# Altium schematic symbol library Connectors.SchLib: 308 symbols (part 4 of 4)
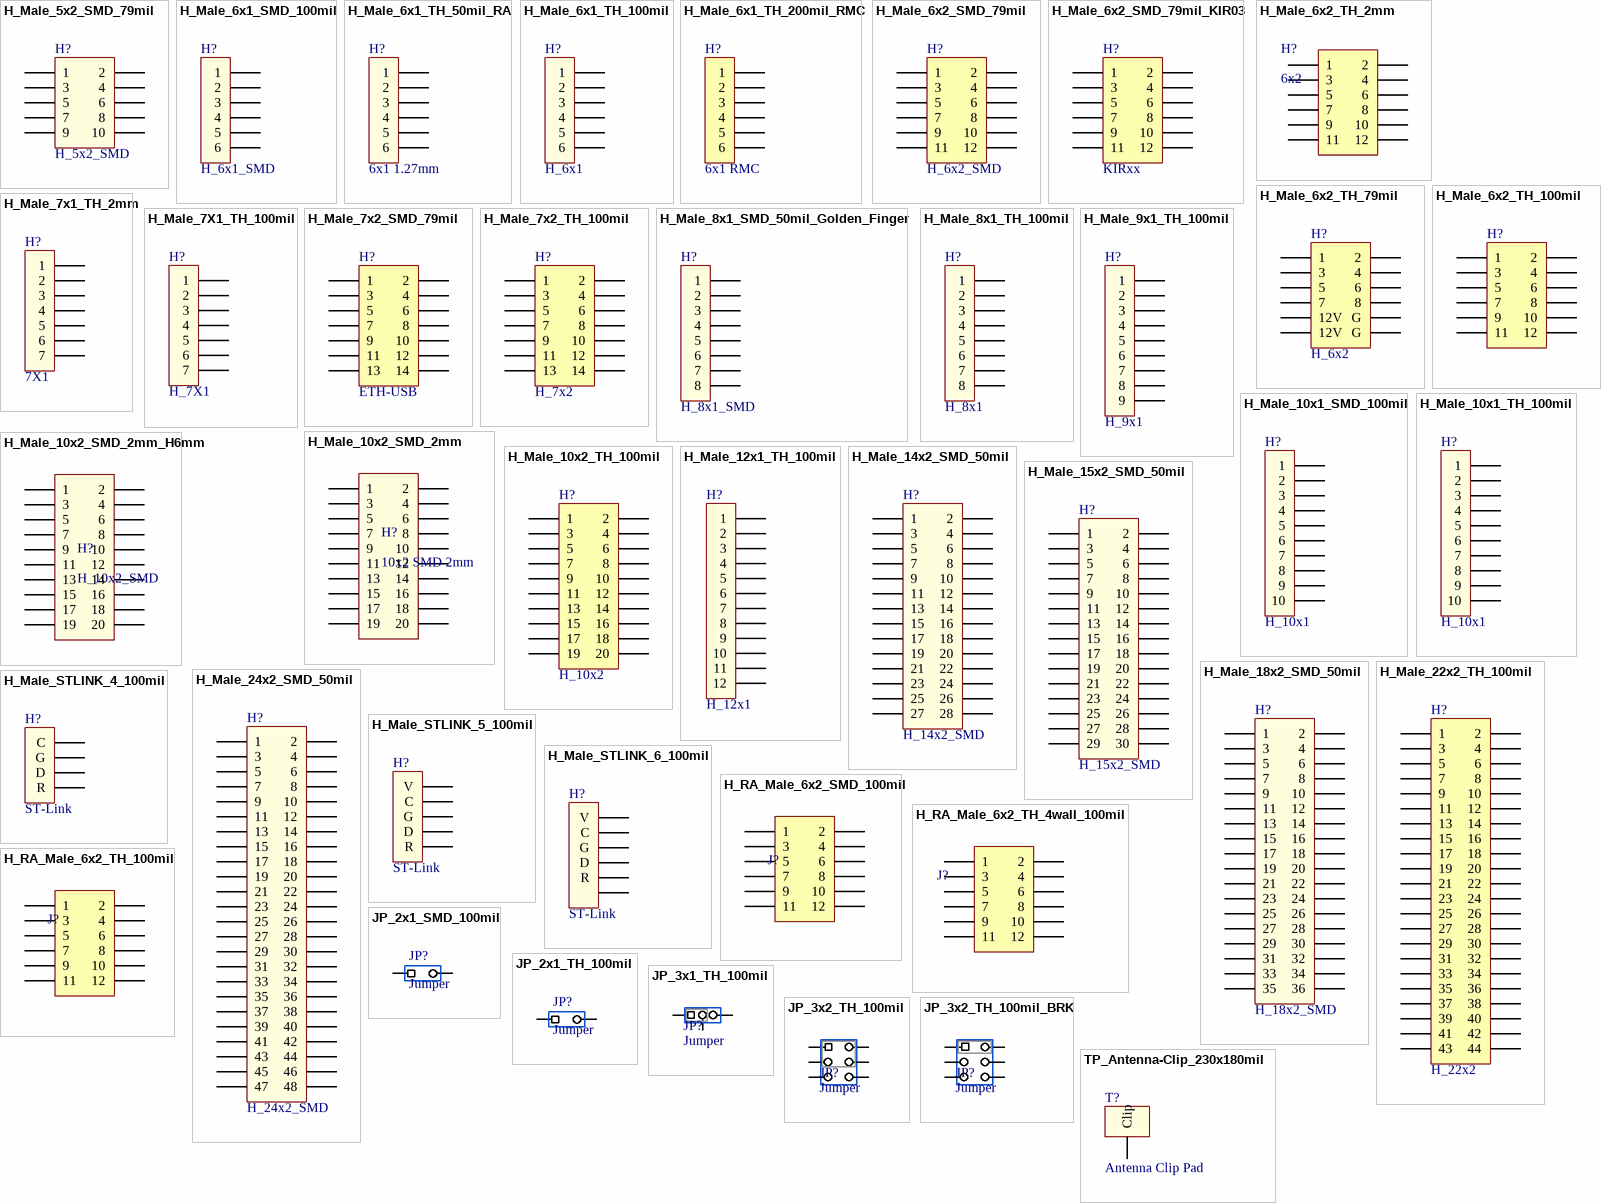
[diagram p12: symbols H_Male_5x2_SMD_79mil to TP_Antenna-Clip_230x180mil]

## H_Male_10x2_SMD_2mm
designator H?, comment 10x2 SMD 2mm
CONN HEADER SMD 20POS 2MM; Manufacturer: Molex; Manufacturer Part Number: 0877592074; Supplier 1: Digi-Key; Supplier Part Number 1: WM26782CT-ND; Last modified by: J-A.Sepulveda; Last modified date: 20230119; ComponentLink1Description: Digi-Key; ComponentLink1URL: https://www.digikey.com/en/products/detail/molex/0877592074/3313034?s=N4IgTCBcDaIBwHYEFYCcBaMAGBAWEAugL5A
footprint H_10x2_SMD_2mm (/20230119/J-A.Sepulveda)
pins: 1, 2, 3, 4, 5, 6, 7, 8, 9, 10, 11, 12, 13, 14, 15, 16, 17, 18, 19, 20

## H_Male_10x2_SMD_2mm_H6mm
designator H?, comment H_10x2_SMD
CONN HEADER SMD 20POS 2MM; Manufacturer: RealRun Electronic; Manufacturer Part Number: PH2.0*1.5-2*10T B3.9 W6.5 E2.1 6T 1U (WITH POST); Supplier 1: Poshton; Supplier Part Number 1: PH2.0*1.5-2*10T B3.9 W6.5 E2.1 6T 1U (WITH POST); Last modified by: J-A.Sepulveda; Last modified date: 20230628; ComponentLink1Description: Datasheet; ComponentLink1URL: https://drive.google.com/file/d/1JPzu1F8oawhlm6ms1WCOraaywETR9AVm/view?usp=drive_link
footprint H_Male_10x2_SMD_2mm_H6mm (/20230621/J-A.Sepulveda)
pins: 1, 2, 3, 4, 5, 6, 7, 8, 9, 10, 11, 12, 13, 14, 15, 16, 17, 18, 19, 20

## H_Male_10x2_TH_100mil
designator H?, comment H_10x2  (no BOM)
CONN HEADER VERT 20POS 2.54MM; Manufacturer: Sullins Connector Solutions; Manufacturer Part Number: PREC010DAAN-RC; Supplier 1: Digi-Key; Supplier Part Number 1: S2012EC-10-ND; Last modified by: J-P.Vargas.A; Last modified date: 20210722; ComponentLink1Description: Digi-Key; ComponentLink1URL: https://www.digikey.com/product-detail/en/sullins-connector-solutions/PREC010DAAN-RC/S2012EC-10-ND/2774884
footprint H_10x2_TH_100mil (/ 20190625 / J-P.Vargas.A)
pins: 1, 2, 3, 4, 5, 6, 7, 8, 9, 10, 11, 12, 13, 14, 15, 16, 17, 18, 19, 20

## H_Male_12x1_TH_100mil
designator H?, comment H_12x1
CONN HEADER VERT 12POS 2.54MM; Manufacturer: Adam Tech; Manufacturer Part Number: PH1-12-UA; Supplier 1: Digi-Key; Supplier Part Number 1: 2057-PH1-12-UA-ND; Last modified by: V-A.Patino; Last modified date: 20210906; ComponentLink1Description: Digi-Key; ComponentLink1URL: https://www.digikey.com/en/products/detail/adam-tech/PH1-12-UA/9830395
footprint H_12x1_TH_100mil (/ 20210825/ V-A.Patino)
pins: 1, 2, 3, 4, 5, 6, 7, 8, 9, 10, 11, 12

## H_Male_14x2_SMD_50mil
designator H?, comment H_14x2_SMD
CONN HEADER SMD 28POS 1.27MM; Manufacturer: REALRUN; Manufacturer Part Number: PH1.27×1.0-2X14T; Last modified by: C-D Viveros; Last modified date: 20220119; Supplier 1: Poshton; Supplier Part Number 1: PH1.27×1.0-2X14T
footprint H_14x2_SMD_50mil (/ 20220119/ C-D Viveros)
pins: 1, 2, 3, 4, 5, 6, 7, 8, 9, 10, 11, 12, 13, 14, 15, 16, 17, 18, 19, 20, 21, 22, 23, 24, 25, 26, 27, 28

## H_Male_15x2_SMD_50mil
designator H?, comment H_15x2_SMD
CONN HEADER SMD 30POS 1.27MM; Manufacturer: REALRUN; Manufacturer Part Number: PH1.27×1.0-2X15T; Last modified by: N-A.Potosi; Last modified date: 20220908; Supplier 1: Poshton; Supplier Part Number 1: PH1.27×1.0-2X15T
footprint H_15x2_SMD_50mil (/ 20220908/ N-A.Potosi)
pins: 1, 2, 3, 4, 5, 6, 7, 8, 9, 10, 11, 12, 13, 14, 15, 16, 17, 18, 19, 20, 21, 22, 23, 24, 25, 26, 27, 28, 29, 30

## H_Male_18x2_SMD_50mil
designator H?, comment H_18x2_SMD
CONN HEADER SMD 36POS 1.27MM; Manufacturer: REALRUN; Manufacturer Part Number: PH1.27×1.0-2X18T; Last modified by: C-D Viveros; Last modified date: 20220119; Supplier 1: Poshton; Supplier Part Number 1: PH1.27×1.0-2X18T
footprint H_18x2_SMD_50mil (/ 20220119 / C-D Viveros)
pins: 1, 2, 3, 4, 5, 6, 7, 8, 9, 10, 11, 12, 13, 14, 15, 16, 17, 18, 19, 20, 21, 22, 23, 24, 25, 26, 27, 28, 29, 30, 31, 32, 33, 34, 35, 36

## H_Male_22x2_TH_100mil
designator H?, comment H_22x2  (no BOM)
CONN HEADER VERT 44POS 2.54MM; Last modified by: N-A.Potosi; Last modified date: 20200309
footprint H_22x2_TH_100mil (Header 100 Mil / 20200309/N-A.Potosi)
pins: 1, 2, 3, 4, 5, 6, 7, 8, 9, 10, 11, 12, 13, 14, 15, 16, 17, 18, 19, 20, 21, 22, 23, 24, 25, 26, 27, 28, 29, 30, 31, 32, 33, 34, 35, 36, 37, 38, 39, 40, 41, 42, 43, 44

## H_Male_24x2_SMD_50mil
designator H?, comment H_24x2_SMD
CONN HEADER SMD 48POS 1.27MM; Manufacturer: REALRUN; Manufacturer Part Number: PH1.27×1.0-2X24T; Last modified by: C-D Viveros; Last modified date: 20220119; Supplier 1: Poshton; Supplier Part Number 1: PH1.27×1.0-2X24T
footprint H_24x2_SMD_50mil (/ 20220119 / C-D Viveros)
pins: 1, 2, 3, 4, 5, 6, 7, 8, 9, 10, 11, 12, 13, 14, 15, 16, 17, 18, 19, 20, 21, 22, 23, 24, 25, 26, 27, 28, 29, 30, 31, 32, 33, 34, 35, 36, 37, 38, 39, 40, 41, 42, 43, 44, 45, 46, 47, 48

## H_Male_STLINK_4_100mil
designator H?, comment ST-Link  (no BOM)
STLINK Debugging; Last modified by: C-A.Serna.A; Last modified date: 20190225
footprint H_4x1_TH_100mil (/ 20190222 / C-A.Serna.A)
footprint H_4x1_SMD_100mil (/ 20190221 / C-A.Serna.A)
pins: 1 C, 2 G, 3 D, 4 R

## H_Male_STLINK_5_100mil
designator H?, comment ST-Link  (no BOM)
STLINK Debugging; Last modified by: C-A.Serna.A; Last modified date: 20190225
footprint H_5x1_TH_100mil (/ 20190222 / C-A.Serna.A)
pins: 1 V, 2 C, 3 G, 4 D, 5 R

## H_Male_STLINK_6_100mil
designator H?, comment ST-Link  (no BOM)
STLINK Debugging; Last modified by: C-A.Serna.A; Last modified date: 20190225
footprint H_6x1_TH_100mil (/ 20190222 / C-A.Serna.A)
pins: 1 V, 2 C, 3 G, 4 D, 5 R, 6

## H_RA_Male_6x2_SMD_100mil
designator J?, comment 6x2  (value not drawn)
CONN HEADER SMD R/A 12POS 2.54MM; Manufacturer: Samtec Inc.; Manufacturer Part Number: TSM-106-01-T-DH; Supplier 1: Digi-Key; Supplier Part Number 1: SAM8986-ND; Last modified by: J.Jaramillo; Last modified date: 20221117; ComponentLink1Description: Digi-Key; ComponentLink1URL: https://www.digikey.com/en/products/detail/samtec-inc/TSM-106-01-T-DH/2685652
footprint H_MALE_6x2_SMD (/20221116/J.Jaramillo)
pins: 1, 2, 3, 4, 5, 6, 7, 8, 9, 10, 11, 12

## H_RA_Male_6x2_TH_4wall_100mil
designator J?, comment 6X2  (value not drawn)
CONN HEADER R/A 12POS 2.54MM 4wall; Manufacturer: Adam Tech; Manufacturer Part Number: BHR-12-HUA; Supplier 1: Digi-Key; Supplier Part Number 1: 2057-BHR-12-HUA-ND; Last modified by: J.Jaramillo; Last modified date: 20221122
footprint H_6x2_TH_100mil _Shrouded (/ 20221122 / J.Jaramillo)
pins: 1, 2, 3, 4, 5, 6, 7, 8, 9, 10, 11, 12

## H_RA_Male_6x2_TH_100mil
designator J?, comment CONN HEADER R/A 12POS 2.54MM  (value not drawn)
Manufacturer: Amphenol ICC (FCI); Manufacturer Part Number: 10129382-912002BLF; Supplier 1: Digi-Key; Supplier Part Number 1: 10129382-912002BLF-ND; Last modified by: J.Jaramillo; Last modified date: 20221116; ComponentLink1Description: Digi-Key; ComponentLink1URL: https://www.digikey.com/en/products/detail/amphenol-cs-fci/10129382-912002BLF/7916140
footprint H_6x2_TH_100mil -RA (/ 20221116 / J.Jaramillo)
pins: 1, 2, 3, 4, 5, 6, 7, 8, 9, 10, 11, 12

## JP_2x1_SMD_100mil
designator JP?, comment Jumper
Jumper 2 pos mil; Last modified by: J-E.Pachon; Last modified date: 20210701
footprint H_2x1_SMD_100mil_1 (/ 20210701 / J-E.Pachon)
pins: 1, 2

## JP_2x1_TH_100mil
designator JP?, comment Jumper
Jumper 2 pos mil; Last modified by: C-D Viveros; Last modified date: 20190411
footprint JP_2x1_TH_100mil (/ 20190222 / C-A.Serna.A)
pins: 1, 2

## JP_3x1_TH_100mil
designator JP?, comment Jumper
Jumper 3 pos 100 mil; Last modified date: 20190411; Last modified by: C-D Viveros
footprint JP_3x1_TH_100mil (/ 20190222 / C-A.Serna.A)
pins: 1, 2, 3

## JP_3x2_TH_100mil
designator JP?, comment Jumper
Jumper 6 pos 2 rows 100 mil; Last modified date: 20190411; Last modified by: C-D Viveros
footprint JP_3x2_TH_100mil (/ 20190411 / C-D Viveros)
pins: 1, 2, 3, 4, 5, 6

## JP_3x2_TH_100mil_BRK
designator JP?, comment Jumper
Jumper 6 pos 2 rows 100 mil; Last modified date: 20210215; Last modified by: M-C.Calderon
footprint JP_3x2_TH_100MIL_ (/ 20210215 / M-C.Calderon)
pins: 1, 2, 3, 4, 5, 6

## TP_Antenna-Clip_230x180mil
designator T?, comment Antenna Clip Pad
CBL CLIP C-TYPE SILVER SOLDER; Manufacturer: Harwin Inc.; Manufacturer Part Number: S8101-46R; Last modified by: J-E.Pachon; Last modified date: 20210722; Supplier 1: Digi-Key; Supplier Part Number 1: 952-1576-1-ND; ComponentLink1Description: Digi-Key; ComponentLink1URL: https://www.digikey.com/en/products/detail/harwin-inc/S8101-46R/2281820?s=N4IgTCBcDaIJwFYwFoCMCDsA2NyByAIiALoC%2BQA
footprint TP_Antenna-Clip_230x180mil (/ 20200722 / C-D Viveros)
pins: 0 Clip

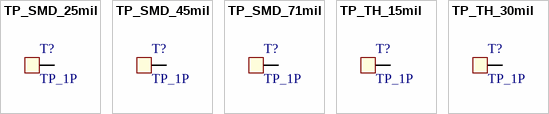
[diagram p9: symbols TP_SMD_25mil to TP_TH_30mil]

## TP_SMD_25mil
designator T?, comment TP_1P  (no BOM)
Test point 25mil pad size; Last modified date: 20190225; Last modified by: C-A.Serna.A
footprint TP_SMD_25mil (Test_point 25mil pad size)
pins: 1

## TP_SMD_45mil
designator T?, comment TP_1P  (no BOM)
Test point 45mil pad size; Last modified by: C-A.Serna.A; Last modified date: 20190225
footprint TP_SMD_45mil (/ 20190222 / C-A.Serna.A)
pins: 1

## TP_SMD_71mil
designator T?, comment TP_1P  (no BOM)
Test point 71mil pad size; Last modified by: J-E.Pachon; Last modified date: 20220808
footprint TP_SMD_71mil (/ 20220808/ J-E.Pachon)
pins: 1

## TP_TH_15mil
designator T?, comment TP_1P  (no BOM)
Test point 15mil hole size; Last modified by: C-A.Serna.A; Last modified date: 20190225
footprint TP_TH_15mil
pins: 1

## TP_TH_30mil
designator T?, comment TP_1P  (no BOM)
Test point 30mil hole size; Last modified by: C-A.Serna.A; Last modified date: 20190225
footprint TP_TH_30mil (Test_point 35mil hole size)
pins: 1